# Altium schematic symbol library PMIC - Voltage Regulators - Linear.SchLib: 3 symbols
Pins are listed as number, name and electrical type; pins without a type are passive.

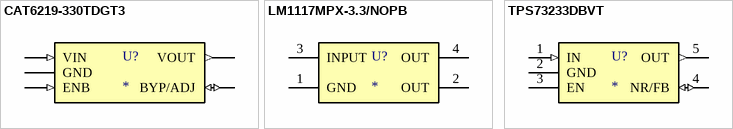
[diagram p0: symbols CAT6219-330TDGT3 to TPS73233DBVT]

## CAT6219-330TDGT3
designator U?
IC REG LIN 3.3V 500MA TSOT23-5; Supplier 1: Farnell; Supplier Part Number 1: 2534233
footprint ONS_TSOT-23-5
pins: 1 VIN (in), 2 GND, 3 ENB (in), 4 BYP/ADJ (io), 5 VOUT (out)

## LM1117MPX-3.3/NOPB
designator U?
IC REG LIN 3.3V 800MA SOT223-4; Supplier 1: Digi-Key; Supplier 2: Farnell; Supplier 3: Mouser; Supplier Part Number 1: LM1117MPX-3.3/NOPBCT-ND; Supplier Part Number 2: 2323580; Supplier Part Number 3: 926-LM1117MPX3.3NOPB
footprint TI_SOT-223-4
pins: 1 GND (power), 2 OUT (power), 3 INPUT (power), 4 OUT (power)

## TPS73233DBVT
designator U?
IC REG LINEAR 3.3V 250MA SOT23-5; Supplier 1: Digi-Key; Supplier 2: Farnell; Supplier 3: Mouser; Supplier 4: Arrow Electronics; Supplier Part Number 1: 296-15812-6-ND; Supplier Part Number 2: 3122466; Supplier Part Number 3: 595-TPS73233DBVT; Supplier Part Number 4: TPS73233DBVT
footprint TI_SOT-23-5
pins: 1 IN (in), 2 GND (power), 3 EN, 4 NR/FB (io), 5 OUT (out)